# EAGLE library part LSM303DLHC (library BoneCapeParts)
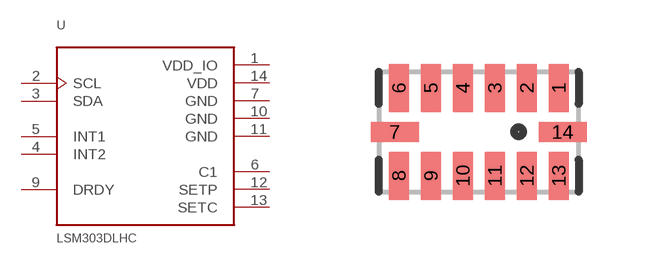
[diagram p3: symbol with the pads of LGA14; footprint LGA14]

Designator prefix -

## LSM303DLHC  [LGA14]
1  VDD_IO  sup
2  SCL  oc
3  SDA  oc
4  INT2  out
5  INT1  out
6  C1  pas
7  GND  sup
9  DRDY  out
10  GND  sup
11  GND  sup
12  SETP  pas
13  SETC  pas
14  VDD  sup

## Footprint LGA14 (pad centres in mm)
smd 0.5 x 1.2: 1 2,1.1; 2 1.2,1.1; 3 0.4,1.1; 4 -0.4,1.1; 5 -1.2,1.1; 6 -2,1.1; 8 -2,-1.1; 9 -1.2,-1.1; 10 -0.4,-1.1; 11 0.4,-1.1; 12 1.2,-1.1; 13 2,-1.1
smd 1.2 x 0.5: 7 -2.1,0; 14 2.1,0